# EAGLE library part DIP-SW-8X (library pedalier)
8x DIP Switch (half pitch) Digikey: CT2188LPST-ND
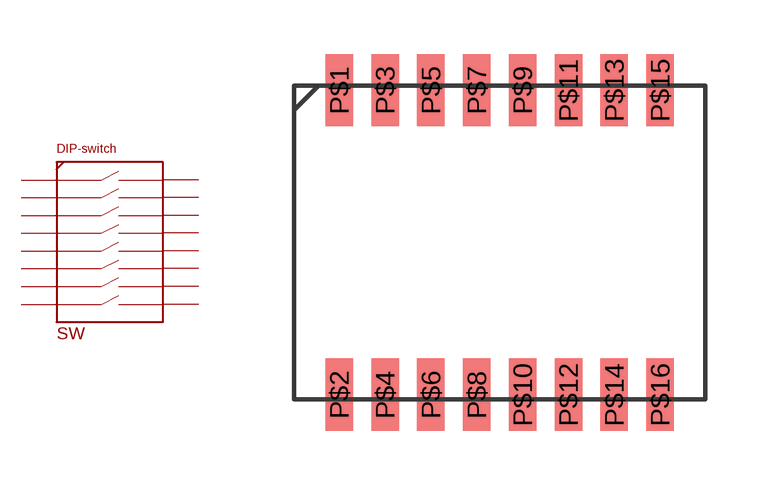
[diagram p4: symbol with the pads of DIP-SW-8X-GULLWING; footprint DIP-SW-8X-GULLWING]

Designator prefix SW

## DIP-SW-8X  [DIP-SW-8X-GULLWING]
P$1  P$1
P$2  P$2
P$3  P$3
P$4  P$4
P$5  P$5
P$6  P$6
P$7  P$7
P$8  P$8
P$9  P$9
P$10  P$10
P$11  P$11
P$12  P$12
P$13  P$13
P$14  P$14
P$15  P$15
P$16  P$16

## Footprint DIP-SW-8X-GULLWING (pad centres in mm)
smd 0.76 x 2: P$1 -4.445,4.22; P$2 -4.445,-4.22; P$3 -3.175,4.22; P$4 -3.175,-4.22; P$5 -1.905,4.22; P$6 -1.905,-4.22; P$7 -0.635,4.22; P$8 -0.635,-4.22; P$9 0.635,4.22; P$10 0.635,-4.22; P$11 1.905,4.22; P$12 1.905,-4.22; P$13 3.175,4.22; P$14 3.175,-4.22; P$15 4.445,4.22; P$16 4.445,-4.22